# EAGLE library part SAMSVE70 (library IC)
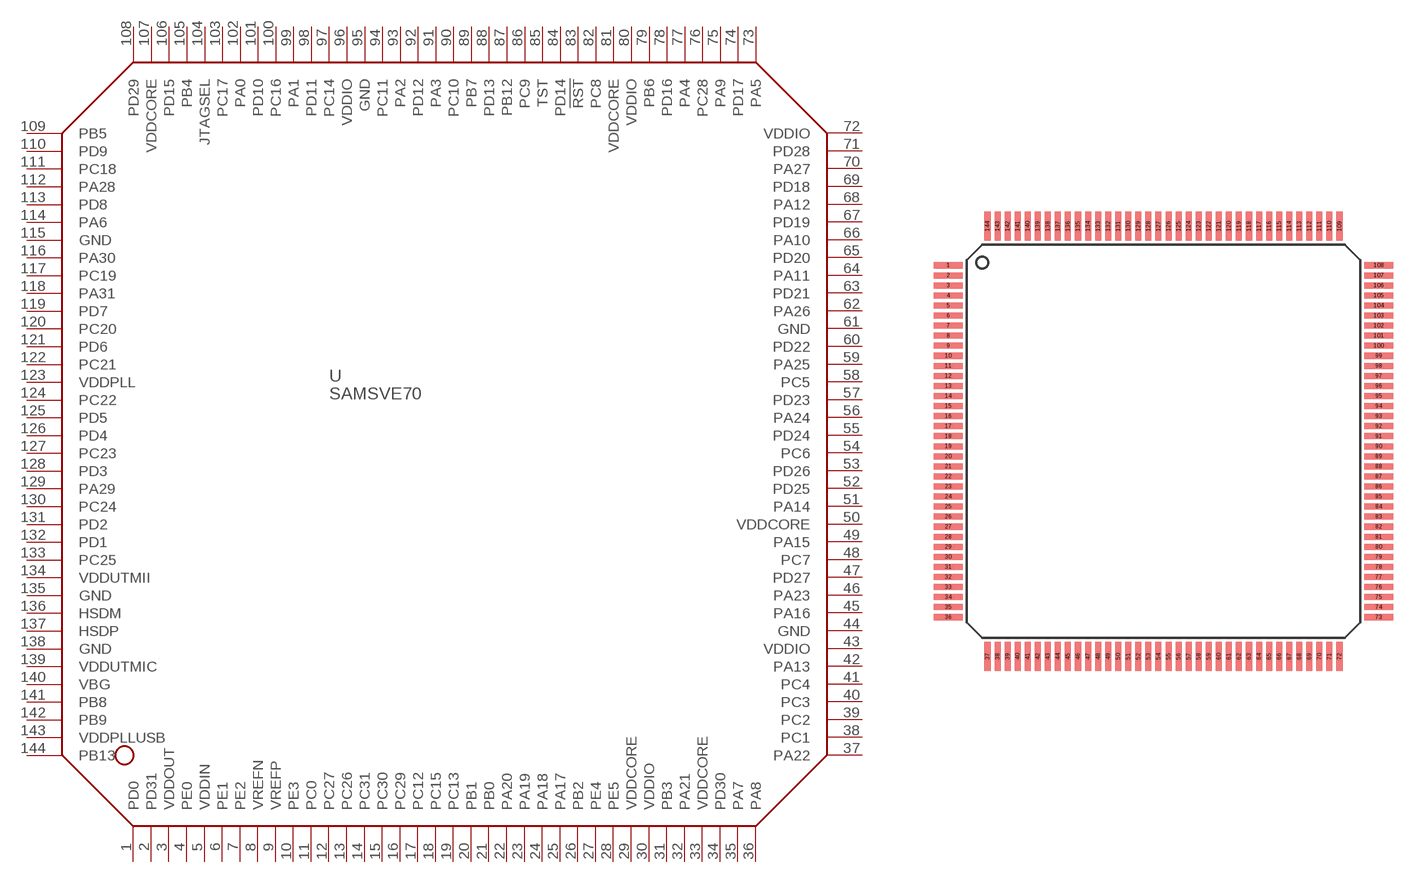
[diagram p11: symbol with the pads of LQFP-144; footprint LQFP-144]

Designator prefix U

## SAMSVE70 (MPN: ATSAMV70Q19B-AAB)  [LQFP-144]
1  PD0
2  PD31
3  VDDOUT
4  PE0
5  VDDIN
6  PE1
7  PE2
8  VREFN
9  VREFP
10  PE3
11  PC0
12  PC27
13  PC26
14  PC31
15  PC30
16  PC29
17  PC12
18  PC15
19  PC13
20  PB1
21  PB0
22  PA20
23  PA19
24  PA18
25  PA17
26  PB2
27  PE4
28  PE5
29  VDDCORE
30  VDDIO
31  PB3
32  PA21
33  VDDCORE
34  PD30
35  PA7
36  PA8
37  PA22
38  PC1
39  PC2
40  PC3
41  PC4
42  PA13
43  VDDIO
44  GND
45  PA16
46  PA23
47  PD27
48  PC7
49  PA15
50  VDDCORE
51  PA14
52  PD25
53  PD26
54  PC6
55  PD24
56  PA24
57  PD23
58  PC5
59  PA25
60  PD22
61  GND
62  PA26
63  PD21
64  PA11
65  PD20
66  PA10
67  PD19
68  PA12
69  PD18
70  PA27
71  PD28
72  VDDIO
73  PA5
74  PD17
75  PA9
76  PC28
77  PA4
78  PD16
79  PB6
80  VDDIO
81  VDDCORE
82  PC8
83  !RST
84  PD14
85  TST
86  PC9
87  PB12
88  PD13
89  PB7
90  PC10
91  PA3
92  PD12
93  PA2
94  PC11
95  GND
96  VDDIO
97  PC14
98  PD11
99  PA1
100  PC16
101  PD10
102  PA0
103  PC17
104  JTAGSEL
105  PB4
106  PD15
107  VDDCORE
108  PD29
109  PB5
110  PD9
111  PC18
112  PA28
113  PD8
114  PA6
115  GND
116  PA30
117  PC19
118  PA31
119  PD7
120  PC20
121  PD6
122  PC21
123  VDDPLL
124  PC22
125  PD5
126  PD4
127  PC23
128  PD3
129  PA29
130  PC24
131  PD2
132  PD1
133  PC25
134  VDDUTMII
135  GND
136  HSDM
137  HSDP
138  GND
139  VDDUTMIC
140  VBG
141  PB8
142  PB9
143  VDDPLLUSB
144  PB13

## Footprint LQFP-144 (pad centres in mm)
smd 1.45 x 0.3: 1 -10.7,8.75; 2 -10.7,8.25; 3 -10.7,7.75; 4 -10.7,7.25; 5 -10.7,6.75; 6 -10.7,6.25; 7 -10.7,5.75; 8 -10.7,5.25; 9 -10.7,4.75; 10 -10.7,4.25; 11 -10.7,3.75; 12 -10.7,3.25; 13 -10.7,2.75; 14 -10.7,2.25; 15 -10.7,1.75; 16 -10.7,1.25; 17 -10.7,0.75; 18 -10.7,0.25; 19 -10.7,-0.25; 20 -10.7,-0.75; 21 -10.7,-1.25; 22 -10.7,-1.75; 23 -10.7,-2.25; 24 -10.7,-2.75; 25 -10.7,-3.25; 26 -10.7,-3.75; 27 -10.7,-4.25; 28 -10.7,-4.75; 29 -10.7,-5.25; 30 -10.7,-5.75; 31 -10.7,-6.25; 32 -10.7,-6.75; 33 -10.7,-7.25; 34 -10.7,-7.75; 35 -10.7,-8.25; 36 -10.7,-8.75; 73 10.7,-8.75; 74 10.7,-8.25; 75 10.7,-7.75; 76 10.7,-7.25; 77 10.7,-6.75; 78 10.7,-6.25; 79 10.7,-5.75; 80 10.7,-5.25; 81 10.7,-4.75; 82 10.7,-4.25; 83 10.7,-3.75; 84 10.7,-3.25; 85 10.7,-2.75; 86 10.7,-2.25; 87 10.7,-1.75; 88 10.7,-1.25; 89 10.7,-0.75; 90 10.7,-0.25; 91 10.7,0.25; 92 10.7,0.75; 93 10.7,1.25; 94 10.7,1.75; 95 10.7,2.25; 96 10.7,2.75; 97 10.7,3.25; 98 10.7,3.75; 99 10.7,4.25; 100 10.7,4.75; 101 10.7,5.25; 102 10.7,5.75; 103 10.7,6.25; 104 10.7,6.75; 105 10.7,7.25; 106 10.7,7.75; 107 10.7,8.25; 108 10.7,8.75
smd 0.3 x 1.45: 37 -8.75,-10.7; 38 -8.25,-10.7; 39 -7.75,-10.7; 40 -7.25,-10.7; 41 -6.75,-10.7; 42 -6.25,-10.7; 43 -5.75,-10.7; 44 -5.25,-10.7; 45 -4.75,-10.7; 46 -4.25,-10.7; 47 -3.75,-10.7; 48 -3.25,-10.7; 49 -2.75,-10.7; 50 -2.25,-10.7; 51 -1.75,-10.7; 52 -1.25,-10.7; 53 -0.75,-10.7; 54 -0.25,-10.7; 55 0.25,-10.7; 56 0.75,-10.7; 57 1.25,-10.7; 58 1.75,-10.7; 59 2.25,-10.7; 60 2.75,-10.7; 61 3.25,-10.7; 62 3.75,-10.7; 63 4.25,-10.7; 64 4.75,-10.7; 65 5.25,-10.7; 66 5.75,-10.7; 67 6.25,-10.7; 68 6.75,-10.7; 69 7.25,-10.7; 70 7.75,-10.7; 71 8.25,-10.7; 72 8.75,-10.7; 109 8.75,10.7; 110 8.25,10.7; 111 7.75,10.7; 112 7.25,10.7; 113 6.75,10.7; 114 6.25,10.7; 115 5.75,10.7; 116 5.25,10.7; 117 4.75,10.7; 118 4.25,10.7; 119 3.75,10.7; 120 3.25,10.7; 121 2.75,10.7; 122 2.25,10.7; 123 1.75,10.7; 124 1.25,10.7; 125 0.75,10.7; 126 0.25,10.7; 127 -0.25,10.7; 128 -0.75,10.7; 129 -1.25,10.7; 130 -1.75,10.7; 131 -2.25,10.7; 132 -2.75,10.7; 133 -3.25,10.7; 134 -3.75,10.7; 135 -4.25,10.7; 136 -4.75,10.7; 137 -5.25,10.7; 138 -5.75,10.7; 139 -6.25,10.7; 140 -6.75,10.7; 141 -7.25,10.7; 142 -7.75,10.7; 143 -8.25,10.7; 144 -8.75,10.7